# EAGLE library part ATMEGA4809-AUR (library Parts)
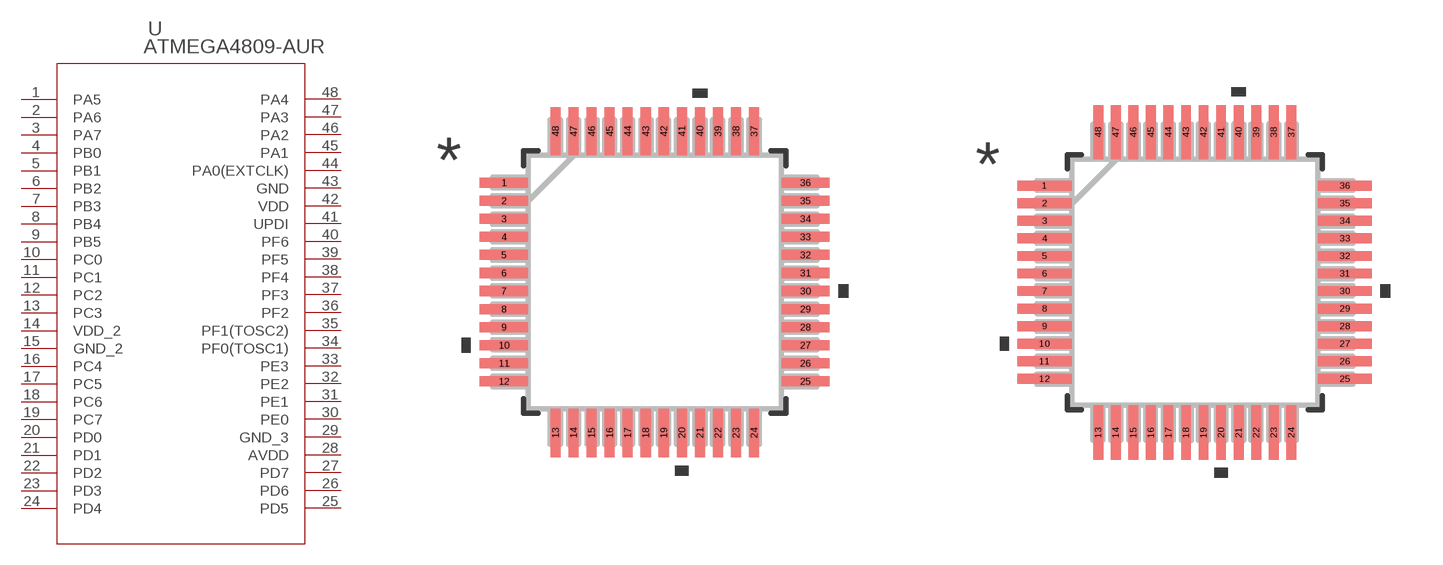
[diagram p4: symbol with the pads of TQFP48_PT_MCH; footprints TQFP48_PT_MCH, TQFP48_PT_MCH-M]

Designator prefix U

## ATMEGA4809-AUR (COPYRIGHT: Copyright (C) 2021 Ultra Librarian. All rights reserved.; DIGI-KEY_PART_NUMBER_1: 150-ATMEGA4809-AURTR-ND; DIGI-KEY_PART_NUMBER_2: 150-ATMEGA4809-AURCT-ND; DIGI-KEY_PART_NUMBER_3: 150-ATMEGA4809-AURDKR-ND; MANUFACTURER_PART_NUMBER: ATMEGA4809-AUR; MFR_NAME: Microchip)  [TQFP48_PT_MCH]
1  PA5
2  PA6
3  PA7
4  PB0
5  PB1
6  PB2
7  PB3
8  PB4
9  PB5
10  PC0
11  PC1
12  PC2
13  PC3
14  VDD_2  pwr
15  GND_2  pas
16  PC4
17  PC5
18  PC6
19  PC7
20  PD0
21  PD1
22  PD2
23  PD3
24  PD4
25  PD5
26  PD6
27  PD7
28  AVDD  pwr
29  GND_3  pas
30  PE0
31  PE1
32  PE2
33  PE3
34  PF0(TOSC1)
35  PF1(TOSC2)
36  PF2
37  PF3
38  PF4
39  PF5
40  PF6
41  UPDI
42  VDD  pwr
43  GND  pas
44  PA0(EXTCLK)
45  PA1
46  PA2
47  PA3
48  PA4

## ATMEGA4809-AURTQFP48_PT_MCH-M (COPYRIGHT: Copyright (C) 2021 Ultra Librarian. All rights reserved.; DIGI-KEY_PART_NUMBER_1: 150-ATMEGA4809-AURTR-ND; DIGI-KEY_PART_NUMBER_2: 150-ATMEGA4809-AURCT-ND; DIGI-KEY_PART_NUMBER_3: 150-ATMEGA4809-AURDKR-ND; MANUFACTURER_PART_NUMBER: ATMEGA4809-AUR; MFR_NAME: Microchip)  [TQFP48_PT_MCH-M]
Pads as for TQFP48_PT_MCH

## ATMEGA4809-AURTQFP48_PT_MCH-L (COPYRIGHT: Copyright (C) 2021 Ultra Librarian. All rights reserved.; DIGI-KEY_PART_NUMBER_1: 150-ATMEGA4809-AURTR-ND; DIGI-KEY_PART_NUMBER_2: 150-ATMEGA4809-AURCT-ND; DIGI-KEY_PART_NUMBER_3: 150-ATMEGA4809-AURDKR-ND; MANUFACTURER_PART_NUMBER: ATMEGA4809-AUR; MFR_NAME: Microchip)  [TQFP48_PT_MCH-L]
Pads as for TQFP48_PT_MCH

## Footprint TQFP48_PT_MCH (pad centres in mm)
smd 1.341 x 0.279: 1 -4.176,2.75; 2 -4.176,2.25; 3 -4.176,1.75; 4 -4.176,1.25; 5 -4.176,0.75; 6 -4.176,0.25; 7 -4.176,-0.25; 8 -4.176,-0.75; 9 -4.176,-1.25; 10 -4.176,-1.75; 11 -4.176,-2.25; 12 -4.176,-2.75; 25 4.176,-2.75; 26 4.176,-2.25; 27 4.176,-1.75; 28 4.176,-1.25; 29 4.176,-0.75; 30 4.176,-0.25; 31 4.176,0.25; 32 4.176,0.75; 33 4.176,1.25; 34 4.176,1.75; 35 4.176,2.25; 36 4.176,2.75
smd 0.279 x 1.341: 13 -2.75,-4.176; 14 -2.25,-4.176; 15 -1.75,-4.176; 16 -1.25,-4.176; 17 -0.75,-4.176; 18 -0.25,-4.176; 19 0.25,-4.176; 20 0.75,-4.176; 21 1.25,-4.176; 22 1.75,-4.176; 23 2.25,-4.176; 24 2.75,-4.176; 37 2.75,4.176; 38 2.25,4.176; 39 1.75,4.176; 40 1.25,4.176; 41 0.75,4.176; 42 0.25,4.176; 43 -0.25,4.176; 44 -0.75,4.176; 45 -1.25,4.176; 46 -1.75,4.176; 47 -2.25,4.176; 48 -2.75,4.176

## Footprint TQFP48_PT_MCH-M (pad centres in mm)
smd 1.541 x 0.279: 1 -4.276,2.75; 2 -4.276,2.25; 3 -4.276,1.75; 4 -4.276,1.25; 5 -4.276,0.75; 6 -4.276,0.25; 7 -4.276,-0.25; 8 -4.276,-0.75; 9 -4.276,-1.25; 10 -4.276,-1.75; 11 -4.276,-2.25; 12 -4.276,-2.75; 25 4.276,-2.75; 26 4.276,-2.25; 27 4.276,-1.75; 28 4.276,-1.25; 29 4.276,-0.75; 30 4.276,-0.25; 31 4.276,0.25; 32 4.276,0.75; 33 4.276,1.25; 34 4.276,1.75; 35 4.276,2.25; 36 4.276,2.75
smd 0.279 x 1.541: 13 -2.75,-4.276; 14 -2.25,-4.276; 15 -1.75,-4.276; 16 -1.25,-4.276; 17 -0.75,-4.276; 18 -0.25,-4.276; 19 0.25,-4.276; 20 0.75,-4.276; 21 1.25,-4.276; 22 1.75,-4.276; 23 2.25,-4.276; 24 2.75,-4.276; 37 2.75,4.276; 38 2.25,4.276; 39 1.75,4.276; 40 1.25,4.276; 41 0.75,4.276; 42 0.25,4.276; 43 -0.25,4.276; 44 -0.75,4.276; 45 -1.25,4.276; 46 -1.75,4.276; 47 -2.25,4.276; 48 -2.75,4.276

## Footprint TQFP48_PT_MCH-L (pad centres in mm)
smd 1.141 x 0.229: 1 -4.075,2.75; 2 -4.075,2.25; 3 -4.075,1.75; 4 -4.075,1.25; 5 -4.075,0.75; 6 -4.075,0.25; 7 -4.075,-0.25; 8 -4.075,-0.75; 9 -4.075,-1.25; 10 -4.075,-1.75; 11 -4.075,-2.25; 12 -4.075,-2.75; 25 4.075,-2.75; 26 4.075,-2.25; 27 4.075,-1.75; 28 4.075,-1.25; 29 4.075,-0.75; 30 4.075,-0.25; 31 4.075,0.25; 32 4.075,0.75; 33 4.075,1.25; 34 4.075,1.75; 35 4.075,2.25; 36 4.075,2.75
smd 0.229 x 1.141: 13 -2.75,-4.075; 14 -2.25,-4.075; 15 -1.75,-4.075; 16 -1.25,-4.075; 17 -0.75,-4.075; 18 -0.25,-4.075; 19 0.25,-4.075; 20 0.75,-4.075; 21 1.25,-4.075; 22 1.75,-4.075; 23 2.25,-4.075; 24 2.75,-4.075; 37 2.75,4.075; 38 2.25,4.075; 39 1.75,4.075; 40 1.25,4.075; 41 0.75,4.075; 42 0.25,4.075; 43 -0.25,4.075; 44 -0.75,4.075; 45 -1.25,4.075; 46 -1.75,4.075; 47 -2.25,4.075; 48 -2.75,4.075